# EAGLE library part CC2652P2-DUOWEISI (library cc2652p-duoweisi)
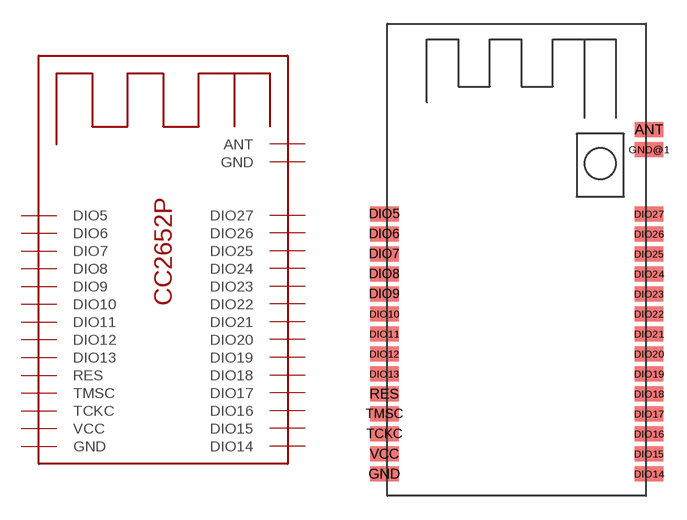
[diagram p0: symbol with the pads of CC2653P2-DUOWEISI; footprint CC2653P2-DUOWEISI]

Designator prefix U

## CC2652P2-DUOWEISI  [CC2653P2-DUOWEISI]
ANT  ANT
DIO5  DIO5
DIO6  DIO6
DIO7  DIO7
DIO8  DIO8
DIO9  DIO9
DIO10  DIO10
DIO11  DIO11
DIO12  DIO12
DIO13  DIO13
DIO14  DIO14
DIO15  DIO15
DIO16  DIO16
DIO17  DIO17
DIO18  DIO18
DIO19  DIO19
DIO20  DIO20
DIO21  DIO21
DIO22  DIO22
DIO23  DIO23
DIO24  DIO24
DIO25  DIO25
DIO26  DIO26
DIO27  DIO27
GND  GND
GND@1  GND
RES  RES
TCKC  TCKC
TMSC  TMSC
VCC  VCC

## Footprint CC2653P2-DUOWEISI (pad centres in mm)
smd 1.8 x 0.94: ANT 16.6,23.27; DIO5 -0.2,17.91; DIO6 -0.2,16.64; DIO7 -0.2,15.37; DIO8 -0.2,14.1; DIO9 -0.2,12.83; DIO10 -0.2,11.56; DIO11 -0.2,10.29; DIO12 -0.2,9.02; DIO13 -0.2,7.75; DIO14 16.6,1.4; DIO15 16.6,2.67; DIO16 16.6,3.94; DIO17 16.6,5.21; DIO18 16.6,6.48; DIO19 16.6,7.75; DIO20 16.6,9.02; DIO21 16.6,10.29; DIO22 16.6,11.56; DIO23 16.6,12.83; DIO24 16.6,14.1; DIO25 16.6,15.37; DIO26 16.6,16.64; DIO27 16.6,17.91; GND -0.2,1.4; GND@1 16.6,22; RES -0.2,6.48; TCKC -0.2,3.94; TMSC -0.2,5.21; VCC -0.2,2.67